# Altium schematic symbol library MT-Sources.SchLib: 11 symbols
Pins are listed as number, name and electrical type; pins without a type are passive.

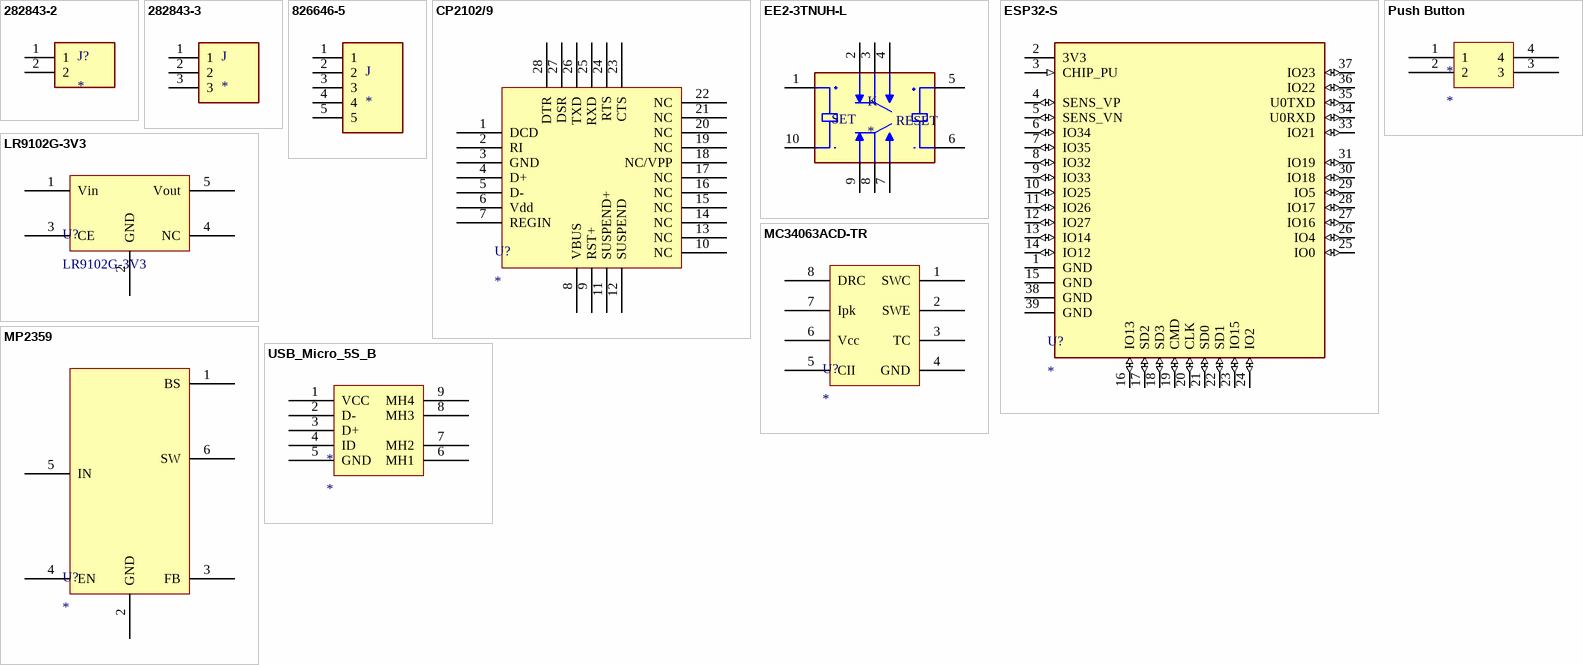
[diagram p0: symbols 282843-2 to USB_Micro_5S_B]

## 282843-2
designator J?
MP: 282843-2; MF: {'manufacturer': 'TE Connectivity'}; Availability: Unavailable; Value: *; Package: None; Price: None
footprint TE_282843-2
pins: 1, 2

## 282843-3
designator J
TERMI-BLOK PCB MOUNT 90 3P.1; MF: TE Connectivity; MP: 282843-3; DigiKey-Purchase-URL: https://snapeda.com/shop?store=DigiKey&id=2375700; Package: None; Digi-Key_Part_Number: A98085-ND; EU_RoHS_Compliance: Compliant with Exemptions; SnapEDA_Link: https://www.snapeda.com/parts/282843-3/TE%20Connectivity%20AMP%20Connectors/view-part/2375700/?ref=snap; Value: *
footprint TE_282843-3
pins: 1, 2, 3

## 826646-5
designator J
Board-To-Board Connector, Through Hole, Header, 5, 2.54 mm, Gold Plated Contacts; MF: TE Connectivity; MP: 826646-5; SnapEDA_Link: https://www.snapeda.com/parts/826646-5/TE%20Connectivity%20AMP%20Connectors/view-part/2389611/?ref=snap; TE_purchase_URL: https://www.te.com/usa-en/product-826646-5.html?te_bu=Cor&te_type=disp&te_campaign=seda_glo_cor-seda-global-disp-prtnr-fy19-seda-model-bom-cta_sma-317_1&elqCampaignId=32493; Availability: Unavailable; Value: *; EU_RoHS_Compliance: Compliant; Price: None; Package: None
footprint TE_826646-5
pins: 1, 2, 3, 4, 5

## CP2102/9
designator U?
SINGLE-CHIP USB TO UART BRIDGE
footprint CP2102/9 (SINGLE-CHIP USB-TO-UART BRIDGE QFN, 28-Leads, Body 5,00x5,00mm, Pitch 0,50mm, Thermal Pad 3,25x3,25mm, IPC Medium Density)
pins: 1 DCD, 2 RI, 3 GND, 4 D+, 5 D-, 6 Vdd, 7 REGIN, 8 VBUS, 9 RST+, 10 NC, 11 SUSPEND+, 12 SUSPEND, 13 NC, 14 NC, 15 NC, 16 NC, 17 NC, 18 NC/VPP, 19 NC, 20 NC, 21 NC, 22 NC, 23 CTS, 24 RTS, 25 RXD, 26 TXD, 27 DSR, 28 DTR

## EE2-3TNUH-L
designator K
General Purpose Relay DPDT (2 Form C) Surface Mount; MP: EE2-3TNUH-L; MF: KEMET; Arrow_Electronics-Purchase-URL: https://snapeda.com/shop?store=Arrow+Electronics&id=696044; SnapEDA_Link: https://www.snapeda.com/parts/EE2-3TNUH-L/KEMET/view-part/696044/?ref=snap; DigiKey-Purchase-URL: https://snapeda.com/shop?store=DigiKey&id=696044; Package: None; Availability: Good; Price: None; Mouser-Purchase-URL: https://snapeda.com/shop?store=Mouser&id=696044; Value: *
footprint RELAY_TQ2_2C_PAN
pins: 1, 2, 3, 4, 5, 6, 7, 8, 9, 10
text: SET; RESET

## ESP32-S
designator U?
pins: 1 GND (power), 2 3V3 (power), 3 CHIP_PU (in), 4 SENS_VP (io), 5 SENS_VN (io), 6 IO34 (io), 7 IO35 (io), 8 IO32 (io), 9 IO33 (io), 10 IO25 (io), 11 IO26 (io), 12 IO27 (io), 13 IO14 (io), 14 IO12 (io), 15 GND (power), 16 IO13 (io), 17 SD2 (io), 18 SD3 (io), 19 CMD (io), 20 CLK (io), 21 SD0 (io), 22 SD1 (io), 23 IO15 (io), 24 IO2 (io), 25 IO0 (io), 26 IO4 (io), 27 IO16 (io), 28 IO17 (io), 29 IO5 (io), 30 IO18 (io), 31 IO19 (io), 33 IO21 (io), 34 U0RXD (io), 35 U0TXD (io), 36 IO22 (io), 37 IO23 (io), 38 GND (power), 39 GND (power)

## LR9102G-3V3
designator U?
IC-LR9102 V.REG 3V3 SOT-23-5 TR UTC; Ozdisan Part#: LR9102G-3V3-AE5-R; ComponentLink1Description: Ozdisan; ComponentLink1URL: https://www.ozdisan.com/entegre-devreler-ics/guc-entegreleri/lineer-voltaj-regulatorleri/LR9102G-3V3-AE5-R
footprint LR9102G-3V3-AE5-R (LR9102G-3V3-AE5-R - IC-LR9102 V.REG 3V3 SOT-23-5 TR UTC)
pins: 1 Vin, 2 GND, 3 CE, 4 NC, 5 Vout

## MC34063ACD-TR
designator U?
vol. reg.; ComponentLink1Description: Ozdisan Part1; ComponentLink1URL: https://www.ozdisan.com/Product/Detail/15528/MC34063ACD-TR
footprint Vol. Reg. MC34063ACD-TR (IC-34063 DC-DC CONVERTER CONTRO3,9mm SMD SO8 TR ST)
pins: 1 SWC, 2 SWE, 3 TC, 4 GND, 5 CII, 6 Vcc, 7 Ipk, 8 DRC

## MP2359
designator U?
vol reg
footprint MP2359 vol reg TSOT23-6 (SOT23, 6-Leads, Body 2,90x2,80mm, Pitch 0,95mm, IPC Medium Density)
pins: 1 BS, 2 GND, 3 FB, 4 EN, 5 IN, 6 SW

## Push Button
designator *
footprint Push Button (KLS7-TS6601)
pins: 1, 2, 3, 4

## USB_Micro_5S_B
designator *
pins: 1 VCC, 2 D-, 3 D+, 4 ID, 5 GND, 6 MH1, 7 MH2, 8 MH3, 9 MH4